# EAGLE library part THN_15-2411 (library THN_15-2411)
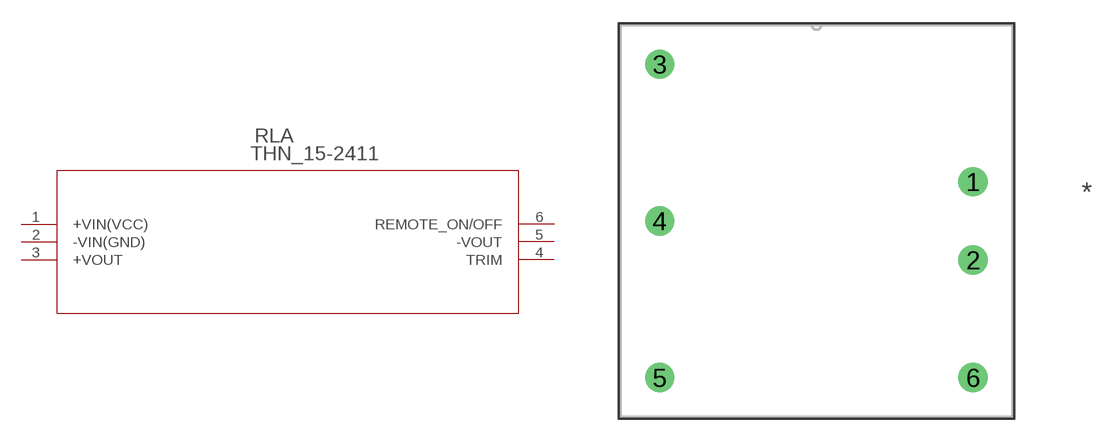
[diagram p0: symbol with the pads of THN15-SINGLE_TRP; footprint THN15-SINGLE_TRP]

Designator prefix RLA

## THN_15-2411 (COPYRIGHT: Copyright (C) 2022 Ultra Librarian. All rights reserved.; DIGI-KEY_PART_NUMBER_1: 1951-1002-ND; MANUFACTURER_PART_NUMBER: THN 15-2411; MFR_NAME: Traco Power)  [THN15-SINGLE_TRP]
1  +VIN(VCC)  pwr
2  -VIN(GND)  pas
3  +VOUT  pwr
4  TRIM  pas
5  -VOUT  pwr
6  REMOTE_ON/OFF

## Footprint THN15-SINGLE_TRP (pad centres in mm)
drill 1.27 pad 1.778: 1 0,0; 2 0,-5.08; 3 -20.32,7.62; 4 -20.32,-2.54; 5 -20.32,-12.7; 6 0,-12.7